# EAGLE library part DB9 (library Connectors)
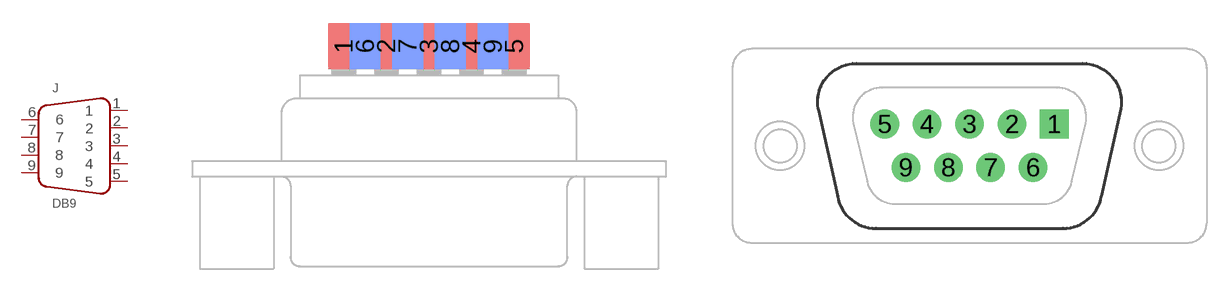
[diagram p8: symbol with the pads of DB9_SMD2; footprints DB9_SMD2, D9F-VERTICAL]

Designator prefix J

## DB9-SMD2  [DB9_SMD2]
1  1
2  2
3  3
4  4
5  5
6  6
7  7
8  8
9  9

## DB9-VERTICAL  [D9F-VERTICAL]
Pads as for DB9_SMD2

## Footprint DB9_SMD2 (pad centres in mm)
smd 2 x 3: 1 -5.54,0; 2 -2.77,0; 3 0,0; 4 2.77,0; 5 5.54,0
smd 2 x 3 bottom: 6 -4.155,0; 7 -1.385,0; 8 1.385,0; 9 4.155,0

## Footprint D9F-VERTICAL (pad centres in mm)
drill 1.016 pad 1.88 square: 1 5.54,1.42
drill 1.016 pad 1.88: 2 2.77,1.42; 3 0,1.42; 4 -2.77,1.42; 5 -5.54,1.42; 6 4.15,-1.42; 7 1.38,-1.42; 8 -1.38,-1.42; 9 -4.15,-1.42